# Altium integrated library ADLib_V15.IntLib: 19 symbols
Pins are listed as number, name and electrical type; pins without a type are passive.

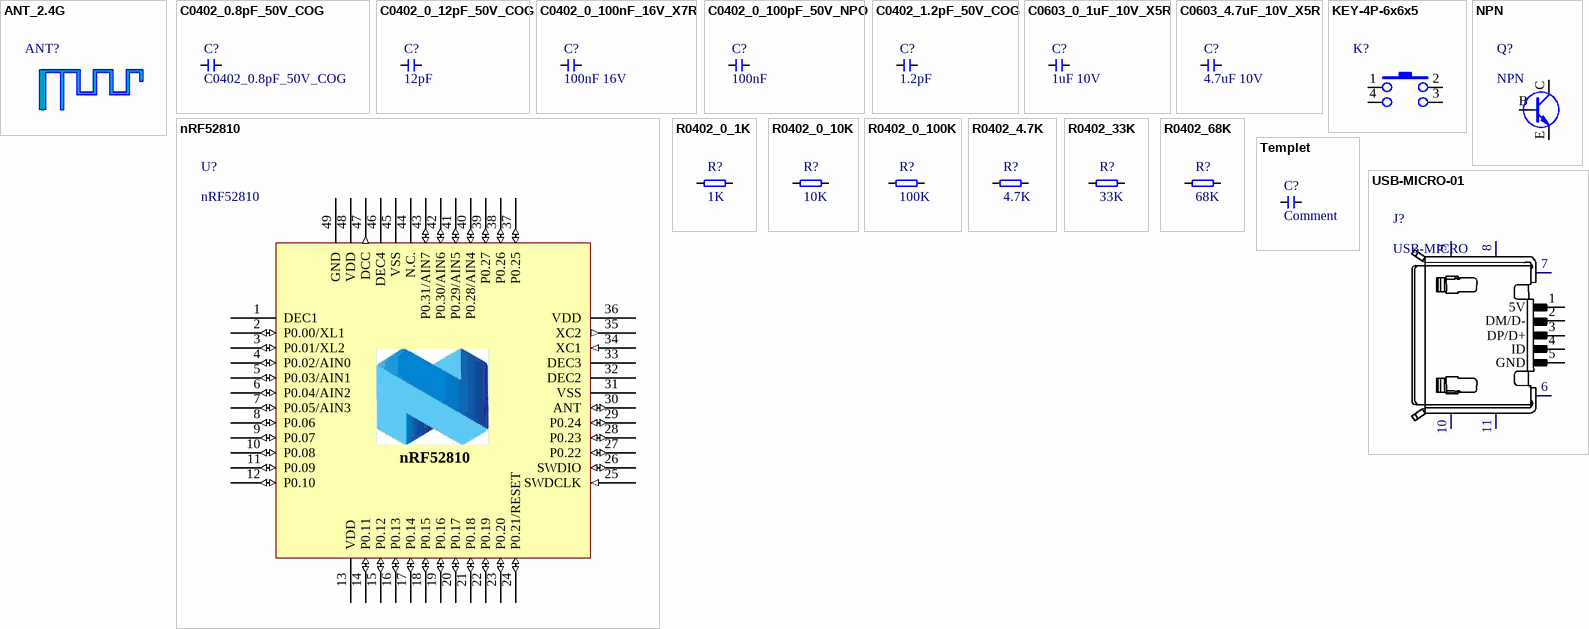
[diagram p0: symbols ANT_2.4G to USB-MICRO-01]

## ANT_2.4G
designator ANT?  (value not drawn)
Planar Inverted F Antenna
footprint ANT2G4-PCB-F (Inverted F antenna for 2402-2480Mhz)
pins: 1, 2

## C0402_0.8pF_50V_COG
designator C?
CAP0402,0.8pF, CC0402, CAP-CCER 0.8 pF B 50 VDC 0402 COG,##GRM1555C1HR80BA01D #Murata; Part Number: 280203304-00000-10; Common: NO; SMT: YES; Price(RMB): 0.01; Datasheet(URL): http://pan.baidu.com/s/1pLn1S19; RoHS: YES; Supplier: Murata
footprint C0402 (Chip Capacitor, 2-Leads, Body 1.00x0.50mm, IPC Medium Density)
pins: 1, 2

## C0402_0_12pF_50V_COG
designator C?, comment 12pF
CAP0402,12pF, CC0402, CAP-CCER 12 pF J 50 VDC 0402 COG; Part Number: 280201638-00000-10; Common: YES; Price(RMB): 0.01; RoHS: YES; SMT: YES
footprint C0402 (Chip Capacitor, 2-Leads, Body 1.00x0.50mm, IPC Medium Density)
pins: 1, 2

## C0402_0_100nF_16V_X7R
designator C?, comment 100nF 16V
CAP0402,100nF, CC0402, CAP-CCER 100 nF K 16 VDC 0402 X7R, ##C0402X7R104K160NTB #EYANG; Part Number: 280201512-00000-10; Common: YES; Price(RMB): 0.01; SMT: YES; RoHS: YES; Supplier: EYANG; Datasheet(URL): http://pan.baidu.com/s/1jIpDSdo
footprint C0402 (Chip Capacitor, 2-Leads, Body 1.00x0.50mm, IPC Medium Density)
pins: 1, 2

## C0402_0_100pF_50V_NPO
designator C?, comment 100nF
CAP0402,100pF, CC0402, CAP-CCER 100 pF J 50 VDC 0402 NPO,##C0402C0G101J500NTB #EYANG; Part Number: 280201628-00000-10; Common: YES; Price(RMB): 0.01; SMT: YES; Supplier: EYANG; RoHS: YES; Datasheet(URL): http://pan.baidu.com/s/1jIpDSdo
footprint C0402 (Chip Capacitor, 2-Leads, Body 1.00x0.50mm, IPC Medium Density)
pins: 1, 2

## C0402_1.2pF_50V_COG
designator C?, comment 1.2pF
CAP0402,1.2pF, CC0402, CAP-CCER 1.2 pF C 50 VDC 0402 COG, ##GRM1555C1H1R2CZ01D #Murata; Part Number: 280200750-00000-10; SMT: YES; Common: NO; Price(RMB): 0.01; Supplier: Murata; RoHS: YES; Datasheet(URL): http://pan.baidu.com/s/1pLn1S19
footprint C0402 (Chip Capacitor, 2-Leads, Body 1.00x0.50mm, IPC Medium Density)
pins: 1, 2

## C0603_0_1uF_10V_X5R
designator C?, comment 1uF 10V
CAP0603,1.0uF, CC0603, CAP-CCER 1 uF K 10 VDC 0603 X5R, ##0603ZD105KAT2A #AVX; Part Number: 280201484-00000-10; SMT: YES; Price(RMB): 0.015; RoHS: YES; Common: YES; Supplier: AVX
footprint C0603 (Chip Capacitor, 2-Leads, Body 1.60x0.80mm, IPC Medium Density)
pins: 1, 2

## C0603_4.7uF_10V_X5R
designator C?, comment 4.7uF 10V
CAP0603,4.7uF, CC0603, CAP-CCER 4.7 uF K 10 VDC 0603 X5R, ##CL10A475KP8NNNC #Samsung; Part Number: 280202830-00000-10; SMT: YES; Common: NO; Price(RMB): 0.05; RoHS: YES; Datasheet(URL): http://pan.baidu.com/s/1i5ekBRn; Supplier: Samsung
footprint C0603 (Chip Capacitor, 2-Leads, Body 1.60x0.80mm, IPC Medium Density)
pins: 1, 2

## KEY-4P-6x6x5
designator K?  (value not drawn)
KEY,4 PIN,SMT,6x6x5mm; SMT: YES; Common: NO; RoHS: YES
footprint KEY-4P-6x6x5 (KEY SMT 6x6x5mm)
pins: 1, 2, 3, 4

## NPN
designator Q?
Description; SMT: YES; Common: NO; RoHS: YES
footprint SOT23-BEC (SOT23, 3-Leads, Body 2.90x2.45mm, Pitch 0.95mm, IPC Medium Density)
pins: B, C, E

## nRF52810
designator U?
Multi-protocol Bluetooth Low Energy and 2.4GHz proprietary system-on-chip; SMT: YES; Common: NO; Price(RMB): 6.0; RoHS: YES; Datasheet(URL): https://pan.baidu.com/s/1dFetmLV; Supplier: Nordic
footprint QFN48P6X6TP46X46 (QFN, 48-Leads, Body 6.00x6.00mm, Pitch 0.40mm, Thermal Pad 4.60x4.60mm, IPC Medium Density)
pins: 1 DEC1 (power), 2 P0.00/XL1 (io), 3 P0.01/XL2 (io), 4 P0.02/AIN0 (io), 5 P0.03/AIN1 (io), 6 P0.04/AIN2 (io), 7 P0.05/AIN3 (io), 8 P0.06 (io), 9 P0.07 (io), 10 P0.08 (io), 11 P0.09 (io), 12 P0.10 (io), 13 VDD (power), 14 P0.11 (io), 15 P0.12 (io), 16 P0.13 (io), 17 P0.14 (io), 18 P0.15 (io), 19 P0.16 (io), 20 P0.17 (io), 21 P0.18 (io), 22 P0.19 (io), 23 P0.20 (io), 24 P0.21/RESET (io), 25 SWDCLK (in), 26 SWDIO (io), 27 P0.22 (io), 28 P0.23 (io), 29 P0.24 (io), 30 ANT (io), 31 VSS (power), 32 DEC2 (power), 33 DEC3 (power), 34 XC1 (in), 35 XC2 (out), 36 VDD (power), 37 P0.25 (io), 38 P0.26 (io), 39 P0.27 (io), 40 P0.28/AIN4 (io), 41 P0.29/AIN5 (io), 42 P0.30/AIN6 (io), 43 P0.31/AIN7 (io), 44 N.C. (power), 45 VSS (power), 46 DEC4 (power), 47 DCC (out), 48 VDD (power), 49 GND (power)

## R0402_0_1K
designator R?, comment 1K
RES TFC 1 Kohm 0402 J 1/16W; Part Number: 280100929-00000-10; Price(RMB): 0.0024
footprint R0402 (Chip Resistor, 2-Leads, Body 1.00x0.50mm, IPC Medium Density)
pins: 1, 2

## R0402_0_10K
designator R?, comment 10K
RES TFC 10 Kohm 0402 J 1/16W; Part Number: 280100937-00000-10; Price(RMB): 0.0024
footprint R0402 (Chip Resistor, 2-Leads, Body 1.00x0.50mm, IPC Medium Density)
pins: 1, 2

## R0402_0_100K
designator R?, comment 100K
RES TFC 100 Kohm 0402 J 1/16W; Part Number: 280100941-00000-10; Price(RMB): 0.0024
footprint R0402 (Chip Resistor, 2-Leads, Body 1.00x0.50mm, IPC Medium Density)
pins: 1, 2

## R0402_4.7K
designator R?, comment 4.7K
RES TFC 4.7 Kohm 0402 J 1/16W; Part Number: 280101287-00000-10; Price(RMB): 0.0024
footprint R0402 (Chip Resistor, 2-Leads, Body 1.00x0.50mm, IPC Medium Density)
pins: 1, 2

## R0402_33K
designator R?, comment 33K
RES TFC 33 Kohm 0402 J 1/16W; Part Number: 280101205-00000-10; Price(RMB): 0.0024
footprint R0402 (Chip Resistor, 2-Leads, Body 1.00x0.50mm, IPC Medium Density)
pins: 1, 2

## R0402_68K
designator R?, comment 68K
RES TFC 68 Kohm 0402 F 1/16W; Part Number: 280101840-00000-10; Price(RMB): 0.0024
footprint R0402 (Chip Resistor, 2-Leads, Body 1.00x0.50mm, IPC Medium Density)
pins: 1, 2

## Templet
designator C?, comment Comment
Description; Part Number: 280202830-00000-10; SMT: YES; Common: NO; Price(RMB): 0.05; RoHS: YES; Datasheet(URL): http://pan.baidu.com/s/1i5ekBRn; Supplier: Samsung
footprint C0603 (Chip Capacitor, 2-Leads, Body 1.60x0.80mm, IPC Medium Density)
pins: 1, 2

## USB-MICRO-01
designator J?, comment USB-MICRO
Micro USB Receptacle, Type B, SMT, R/A,  Bottom Mount, optional Peg, with Shell Stakes #USB3080 GCT; SMT: YES; Common: NO; RoHS: YES; Datasheet(URL): https://pan.baidu.com/s/1micJey8
footprint MICRO-USB-01 (Micro USB Receptacle, Type B, SMT, R/A,  Bottom Mount, optional Peg, with Shell Stakes #USB3080 GCT)
pins: 1 5V, 2 DM/D-, 3 DP/D+, 4 ID, 5 GND, 6 GND, 7 GND, 8 GND, 9 GND, 10 GND, 11 GND